# EAGLE library part TLV62084 (library joule_shield)
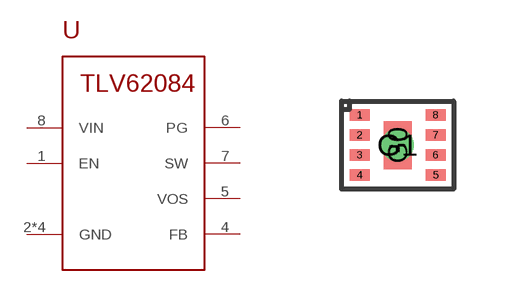
[diagram p5: symbol with the pads of PWSON-8; footprint PWSON-8]

Designator prefix -

## TLV62084PWSON-8  [PWSON-8]
1  EN
2  GND
3  GND
4  FB
5  VOS
6  PG
7  SW
8  VIN
G0  GND
G1  GND

## Footprint PWSON-8 (pad centres in mm)
smd 0.5 x 0.28: 1 -0.95,0.75; 2 -0.95,0.25; 3 -0.95,-0.25; 4 -0.95,-0.75; 5 0.95,-0.75; 6 0.95,-0.25; 7 0.95,0.25; 8 0.95,0.75
smd 0.7 x 1.2: G0 0,0
drill 0.305 pad 0.6: G1 0,0